# Altium schematic symbol library Schlib1.SchLib: 11 symbols
Pins are listed as number, name and electrical type; pins without a type are passive.

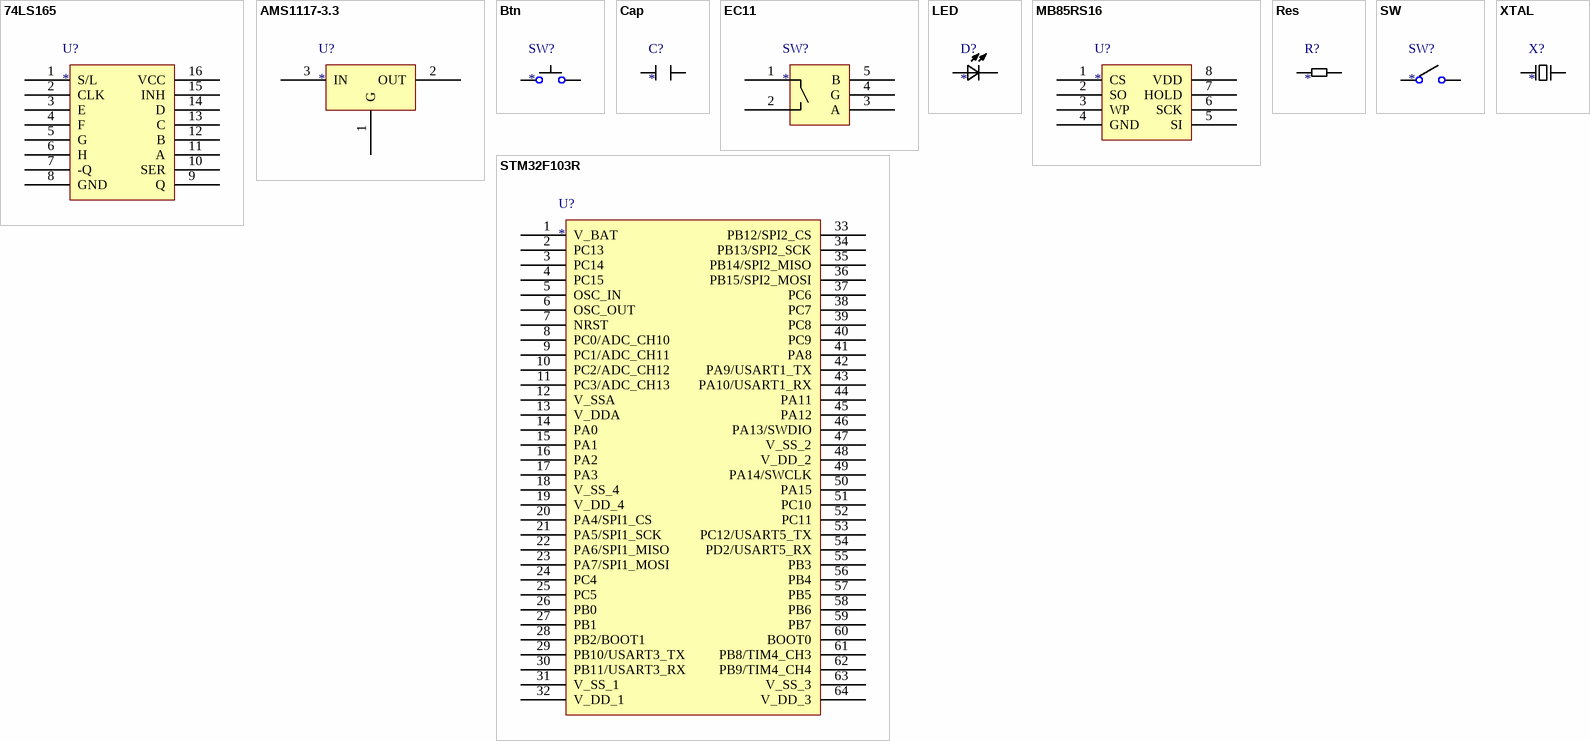
[diagram p0: symbols 74LS165 to XTAL]

## 74LS165
designator U?
footprint SOP16 (SOP, 16-Leads, Body 9.90x3.91mm, Pitch 1.27mm, IPC Low Density)
pins: 1 S/L, 2 CLK, 3 E, 4 F, 5 G, 6 H, 7 -Q, 8 GND, 9 Q, 10 SER, 11 A, 12 B, 13 C, 14 D, 15 INH, 16 VCC

## AMS1117-3.3
designator U?
footprint SOT223 (SOT223, 4-Leads, Body 6.50x7.00mm (avg), Pitch 2.30mm, IPC Low Density)
pins: 1 G, 2 OUT, 3 IN

## Btn
designator SW?
footprint Btn
pins: 1, 2

## Cap
designator C?
footprint 0805
pins: 1, 2

## EC11
designator SW?
footprint EC11
pins: 1 K, 2 A, 3 A, 4 G, 5 B

## LED
designator D?
footprint 0805
pins: 1, 2

## MB85RS16
designator U?
footprint SOP8
pins: 1 CS, 2 SO, 3 WP, 4 GND, 5 SI, 6 SCK, 7 HOLD, 8 VDD

## Res
designator R?
footprint 0805
pins: 1, 2

## STM32F103R
designator U?
footprint LQFP64 (TSQFP, 64-Leads, Body 10.00x10.00mm, Pitch 0.50mm, IPC Low Density)
pins: 1 V_BAT, 2 PC13, 3 PC14, 4 PC15, 5 OSC_IN, 6 OSC_OUT, 7 NRST, 8 PC0/ADC_CH10, 9 PC1/ADC_CH11, 10 PC2/ADC_CH12, 11 PC3/ADC_CH13, 12 V_SSA, 13 V_DDA, 14 PA0, 15 PA1, 16 PA2, 17 PA3, 18 V_SS_4, 19 V_DD_4, 20 PA4/SPI1_CS, 21 PA5/SPI1_SCK, 22 PA6/SPI1_MISO, 23 PA7/SPI1_MOSI, 24 PC4, 25 PC5, 26 PB0, 27 PB1, 28 PB2/BOOT1, 29 PB10/USART3_TX, 30 PB11/USART3_RX, 31 V_SS_1, 32 V_DD_1, 33 PB12/SPI2_CS, 34 PB13/SPI2_SCK, 35 PB14/SPI2_MISO, 36 PB15/SPI2_MOSI, 37 PC6, 38 PC7, 39 PC8, 40 PC9, 41 PA8, 42 PA9/USART1_TX, 43 PA10/USART1_RX, 44 PA11, 45 PA12, 46 PA13/SWDIO, 47 V_SS_2, 48 V_DD_2, 49 PA14/SWCLK, 50 PA15, 51 PC10, 52 PC11, 53 PC12/USART5_TX, 54 PD2/USART5_RX, 55 PB3, 56 PB4, 57 PB5, 58 PB6, 59 PB7, 60 BOOT0, 61 PB8/TIM4_CH3, 62 PB9/TIM4_CH4, 63 V_SS_3, 64 V_DD_3

## SW
designator SW?
footprint HDR1x2 (Footprint not found)
pins: 1, 2    

## XTAL
designator X?
footprint 49SMD (Chip Capacitor, 2-Leads, Body 12.65x4.50mm, IPC High Density)
pins: 1, 2